# Altium footprint library BASIC Library.PCBLIB: 464 footprints (part 6 of 30)
Each footprint in its own frame and in the unit in brackets; x right, y up, seen from the top. Pads: shape width x height; smd on the part's side, far side on the other; paste and mask are expansions set on the pad; w line width, h text height; cw(c..) or ccw(c..) is an arc to the next point about the centre after c.
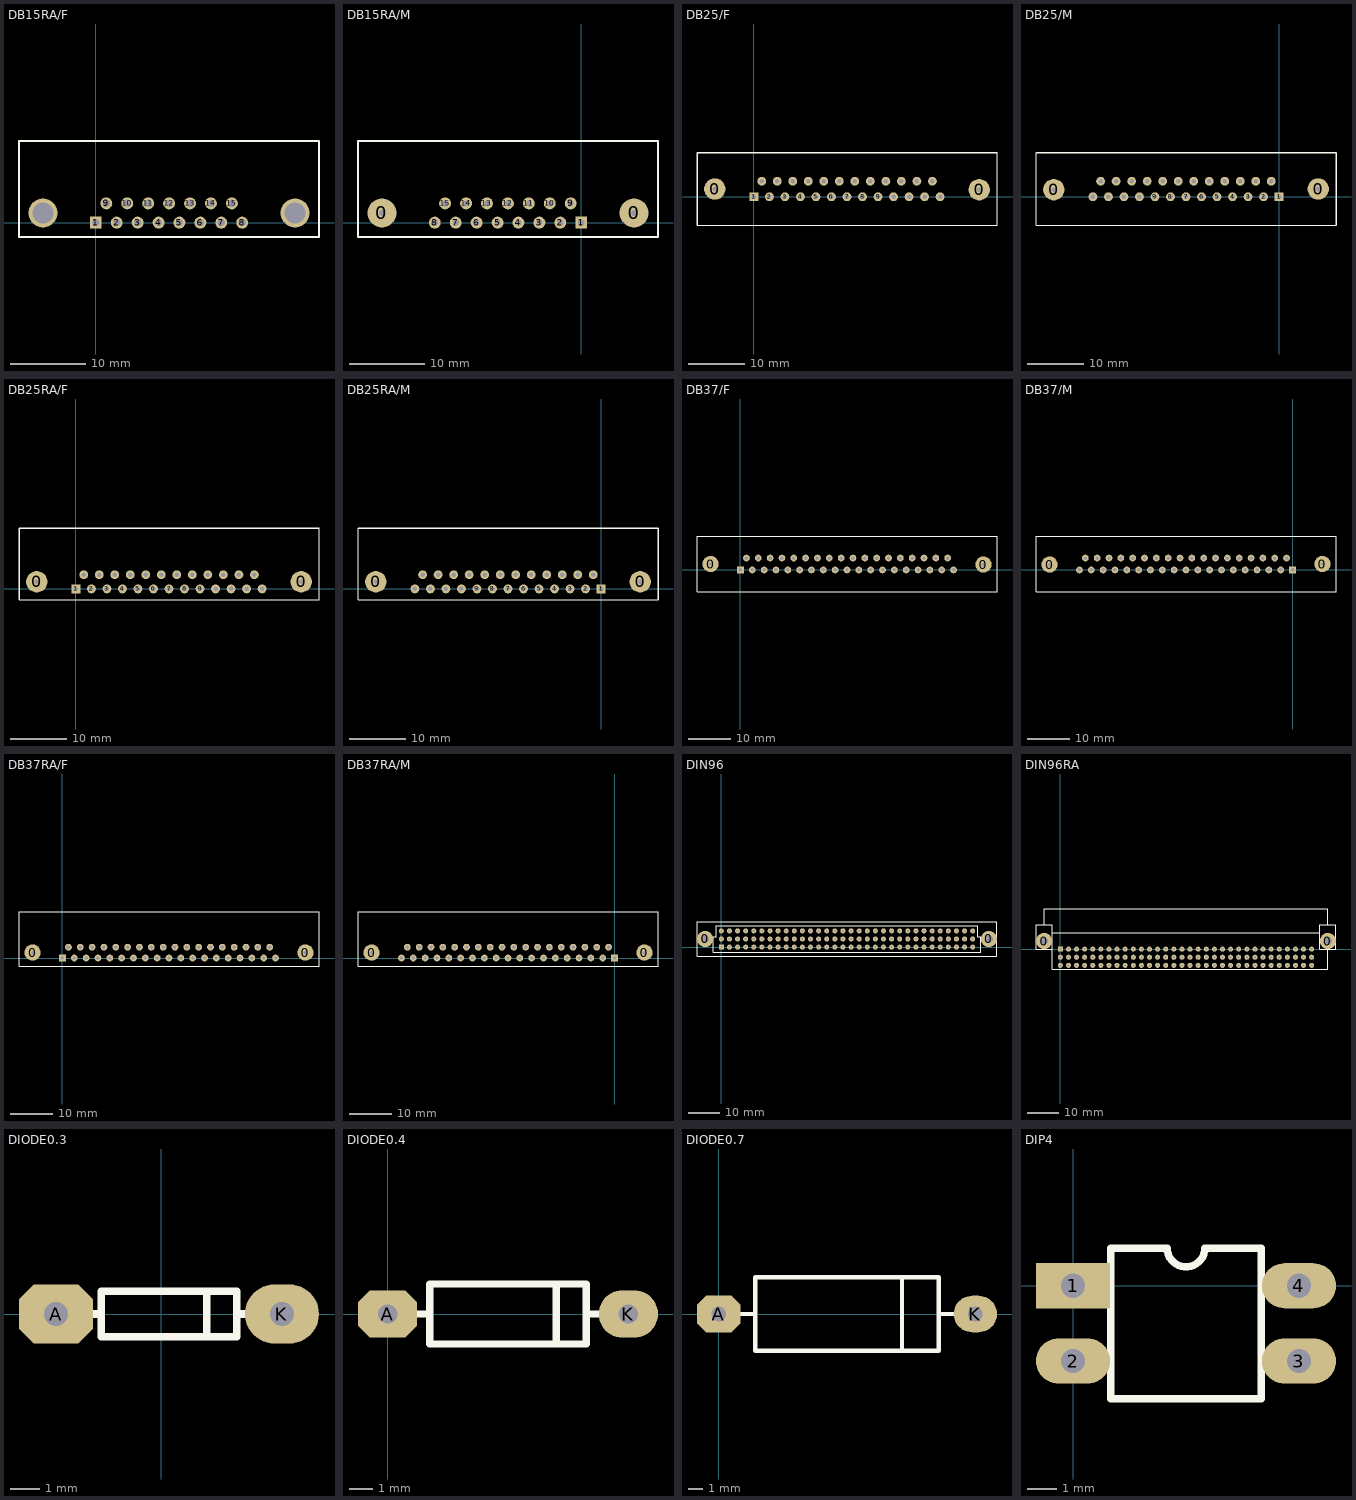
[diagram p5: the footprints below, top view; thin cyan lines are the x and y axes]

## DB15RA/F [mil]
pads (17):
  rect 62x62 hole 38: 1(0,0)
  round 62 hole 38: 2(109,0) 3(218,0) 4(327,0) 5(436,0) 6(545,0) 7(654,0) 8(763,0) 9(55,100) 10(164,100) 11(273,100) 12(382,100) 13(491,100) 14(600,100) 15(709,100)
  round 150 hole 110: ""(-275,50) ""(1038,50)
TopOverlay:
  lines w8: -400,-75 1163,-75 1163,425
  lines w10: -400,-75 -400,425 1163,425

## DB15RA/M [mil]
pads (17):
  round 150 hole 32: 0(-1038,50) 0(275,50)
  rect 62x62 hole 32: 1(0,0)
  round 62 hole 32: 2(-109,0) 3(-218,0) 4(-327,0) 5(-436,0) 6(-545,0) 7(-654,0) 8(-763,0) 9(-55,100) 10(-164,100) 11(-273,100) 12(-382,100) 13(-491,100) 14(-600,100) 15(-709,100)
TopOverlay:
  lines w8: -1163,425 -1163,-75 400,-75
  lines w10: -1163,425 400,425 400,-75

## DB25/F [mil]
pads (27):
  round 150 hole 32: 0(-275,55) 0(1583,50)
  rect 62x62 hole 32: 1(0,0)
  round 62 hole 32: 2(109,0) 3(218,0) 4(327,0) 5(436,0) 6(545,0) 7(654,0) 8(763,0) 9(872,0) 10(981,0) 11(1090,0) 12(1199,0) 13(1308,0) 14(55,110) 15(164,110) 16(273,110) 17(382,110) 18(491,110) 19(600,110) 20(709,110) 21(818,110) 22(927,110) 23(1036,110) 24(1145,110) 25(1254,110)
TopOverlay:
  lines w8: -400,-200 1708,-200 1708,310
  lines w10: -400,-200 -400,310 1708,310

## DB25/M [mil]
pads (27):
  round 150 hole 32: 0(-1583,50) 0(275,55)
  rect 62x62 hole 32: 1(0,0)
  round 62 hole 32: 2(-109,0) 3(-218,0) 4(-327,0) 5(-436,0) 6(-545,0) 7(-654,0) 8(-763,0) 9(-872,0) 10(-981,0) 11(-1090,0) 12(-1199,0) 13(-1308,0) 14(-55,110) 15(-164,110) 16(-273,110) 17(-382,110) 18(-491,110) 19(-600,110) 20(-709,110) 21(-818,110) 22(-927,110) 23(-1036,110) 24(-1145,110) 25(-1254,110)
TopOverlay:
  lines w8: -1708,310 -1708,-200 400,-200
  lines w10: -1708,310 400,310 400,-200

## DB25RA/F [mil]
pads (27):
  round 150 hole 32: 0(-275,50) 0(1583,50)
  rect 62x62 hole 32: 1(0,0)
  round 62 hole 32: 2(109,0) 3(218,0) 4(327,0) 5(436,0) 6(545,0) 7(654,0) 8(763,0) 9(872,0) 10(981,0) 11(1090,0) 12(1199,0) 13(1308,0) 14(55,100) 15(164,100) 16(273,100) 17(382,100) 18(491,100) 19(600,100) 20(709,100) 21(818,100) 22(927,100) 23(1036,100) 24(1145,100) 25(1254,100)
TopOverlay:
  lines w8: -400,-75 1708,-75 1708,425
  lines w10: -400,-75 -400,425 1708,425

## DB25RA/M [mil]
pads (27):
  round 150 hole 32: 0(-1583,50) 0(275,50)
  rect 62x62 hole 32: 1(0,0)
  round 62 hole 32: 2(-109,0) 3(-218,0) 4(-327,0) 5(-436,0) 6(-545,0) 7(-654,0) 8(-763,0) 9(-872,0) 10(-981,0) 11(-1090,0) 12(-1199,0) 13(-1308,0) 14(-55,100) 15(-164,100) 16(-273,100) 17(-382,100) 18(-491,100) 19(-600,100) 20(-709,100) 21(-818,100) 22(-927,100) 23(-1036,100) 24(-1145,100) 25(-1254,100)
TopOverlay:
  lines w8: -1708,425 -1708,-75 400,-75
  lines w10: -1708,425 400,425 400,-75

## DB37/F [mil]
pads (39):
  round 150 hole 32: 0(-275,55) 0(2237,50)
  rect 62x62 hole 32: 1(0,0)
  round 62 hole 32: 2(109,0) 3(218,0) 4(327,0) 5(436,0) 6(545,0) 7(654,0) 8(763,0) 9(872,0) 10(981,0) 11(1090,0) 12(1199,0) 13(1308,0) 14(1417,0) 15(1526,0) 16(1635,0) 17(1744,0) 18(1853,0) 19(1962,0) 20(55,110) 21(164,110) 22(273,110) 23(382,110) 24(491,110) 25(600,110) 26(709,110) 27(818,110) 28(927,110) 29(1036,110) 30(1145,110) 31(1254,110) 32(1363,110) 33(1472,110) 34(1581,110) 35(1690,110) 36(1799,110) 37(1908,110)
TopOverlay:
  lines w8: -400,-200 2362,-200 2362,310
  lines w10: -400,-200 -400,310 2362,310

## DB37/M [mil]
pads (39):
  round 150 hole 32: 0(-2237,50) 0(275,55)
  rect 62x62 hole 32: 1(0,0)
  round 62 hole 32: 2(-109,0) 3(-218,0) 4(-327,0) 5(-436,0) 6(-545,0) 7(-654,0) 8(-763,0) 9(-872,0) 10(-981,0) 11(-1090,0) 12(-1199,0) 13(-1308,0) 14(-1417,0) 15(-1526,0) 16(-1635,0) 17(-1744,0) 18(-1853,0) 19(-1962,0) 20(-55,110) 21(-164,110) 22(-273,110) 23(-382,110) 24(-491,110) 25(-600,110) 26(-709,110) 27(-818,110) 28(-927,110) 29(-1036,110) 30(-1145,110) 31(-1254,110) 32(-1363,110) 33(-1472,110) 34(-1581,110) 35(-1690,110) 36(-1799,110) 37(-1908,110)
TopOverlay:
  lines w8: -2362,310 -2362,-200 400,-200
  lines w10: -2362,310 400,310 400,-200

## DB37RA/F [mil]
pads (39):
  round 150 hole 32: 0(-275,50) 0(2237,50)
  rect 62x62 hole 32: 1(0,0)
  round 62 hole 32: 2(109,0) 3(218,0) 4(327,0) 5(436,0) 6(545,0) 7(654,0) 8(763,0) 9(872,0) 10(981,0) 11(1090,0) 12(1199,0) 13(1308,0) 14(1417,0) 15(1526,0) 16(1635,0) 17(1744,0) 18(1853,0) 19(1962,0) 20(55,100) 21(164,100) 22(273,100) 23(382,100) 24(491,100) 25(600,100) 26(709,100) 27(818,100) 28(927,100) 29(1036,100) 30(1145,100) 31(1254,100) 32(1363,100) 33(1472,100) 34(1581,100) 35(1690,100) 36(1799,100) 37(1908,100)
TopOverlay:
  lines w8: -400,-75 2362,-75 2362,425
  lines w10: -400,-75 -400,425 2362,425

## DB37RA/M [mil]
pads (39):
  round 150 hole 32: 0(-2237,50) 0(275,50)
  rect 62x62 hole 32: 1(0,0)
  round 62 hole 32: 2(-109,0) 3(-218,0) 4(-327,0) 5(-436,0) 6(-545,0) 7(-654,0) 8(-763,0) 9(-872,0) 10(-981,0) 11(-1090,0) 12(-1199,0) 13(-1308,0) 14(-1417,0) 15(-1526,0) 16(-1635,0) 17(-1744,0) 18(-1853,0) 19(-1962,0) 20(-55,100) 21(-164,100) 22(-273,100) 23(-382,100) 24(-491,100) 25(-600,100) 26(-709,100) 27(-818,100) 28(-927,100) 29(-1036,100) 30(-1145,100) 31(-1254,100) 32(-1363,100) 33(-1472,100) 34(-1581,100) 35(-1690,100) 36(-1799,100) 37(-1908,100)
TopOverlay:
  lines w8: -2362,425 -2362,-75 400,-75
  lines w10: -2362,425 400,425 400,-75

## DIN96 [mil]
pads (98):
  round 200 hole 100: 0(-200,100) 0(3300,100)
  rect 62x62 hole 25: 1A(0,0)
  round 62 hole 25: 1B(0,100) 1C(0,200) 2A(100,0) 2B(100,100) 2C(100,200) 3A(200,0) 3B(200,100) 3C(200,200) 4A(300,0) 4B(300,100) 4C(300,200) 5A(400,0) 5B(400,100) 5C(400,200) 6A(500,0) 6B(500,100) 6C(500,200) 7A(600,0) 7B(600,100) 7C(600,200) 8A(700,0) 8B(700,100) 8C(700,200) 9A(800,0) 9B(800,100) 9C(800,200) 10A(900,0) 10B(900,100) 10C(900,200) 11A(1000,0) 11B(1000,100) 11C(1000,200) 12A(1100,0) 12B(1100,100) 12C(1100,200) 13A(1200,0) 13B(1200,100) 13C(1200,200) 14A(1300,0) 14B(1300,100) 14C(1300,200) 15A(1400,0) 15B(1400,100) 15C(1400,200) 16A(1500,0) 16B(1500,100) 16C(1500,200) 17A(1600,0) 17B(1600,100) 17C(1600,200) 18A(1700,0) 18B(1700,100) 18C(1700,200) 19A(1800,0) 19B(1800,100) 19C(1800,200) 20A(1900,0) 20B(1900,100) 20C(1900,200) 21A(2000,0) 21B(2000,100) 21C(2000,200) 22A(2100,0) 22B(2100,100) 22C(2100,200) 23A(2200,0) 23B(2200,100) 23C(2200,200) 24A(2300,0) 24B(2300,100) 24C(2300,200) 25A(2400,0) 25B(2400,100) 25C(2400,200) 26A(2500,0) 26B(2500,100) 26C(2500,200) 27A(2600,0) 27B(2600,100) 27C(2600,200) 28A(2700,0) 28B(2700,100) 28C(2700,200) 29A(2800,0) 29B(2800,100) 29C(2800,200) 30A(2900,0) 30B(2900,100) 30C(2900,200) 31A(3000,0) 31B(3000,100) 31C(3000,200) 32A(3100,0) 32B(3100,100) 32C(3100,200)
TopOverlay:
  lines w10: -300,-110 -300,310 3400,310 3400,-110 -300,-110 ; -100,-65 -100,130 -65,130 -65,265 3165,265 3165,130 3200,130 3200,-65 -100,-65

## DIN96RA [mil]
pads (98):
  round 200 hole 100: 0(-200,100) 0(3300,100)
  rect 62x62 hole 25: 1A(0,0)
  round 62 hole 25: 1B(0,-100) 1C(0,-200) 2A(100,0) 2B(100,-100) 2C(100,-200) 3A(200,0) 3B(200,-100) 3C(200,-200) 4A(300,0) 4B(300,-100) 4C(300,-200) 5A(400,0) 5B(400,-100) 5C(400,-200) 6A(500,0) 6B(500,-100) 6C(500,-200) 7A(600,0) 7B(600,-100) 7C(600,-200) 8A(700,0) 8B(700,-100) 8C(700,-200) 9A(800,0) 9B(800,-100) 9C(800,-200) 10A(900,0) 10B(900,-100) 10C(900,-200) 11A(1000,0) 11B(1000,-100) 11C(1000,-200) 12A(1100,0) 12B(1100,-100) 12C(1100,-200) 13A(1200,0) 13B(1200,-100) 13C(1200,-200) 14A(1300,0) 14B(1300,-100) 14C(1300,-200) 15A(1400,0) 15B(1400,-100) 15C(1400,-200) 16A(1500,0) 16B(1500,-100) 16C(1500,-200) 17A(1600,0) 17B(1600,-100) 17C(1600,-200) 18A(1700,0) 18B(1700,-100) 18C(1700,-200) 19A(1800,0) 19B(1800,-100) 19C(1800,-200) 20A(1900,0) 20B(1900,-100) 20C(1900,-200) 21A(2000,0) 21B(2000,-100) 21C(2000,-200) 22A(2100,0) 22B(2100,-100) 22C(2100,-200) 23A(2200,0) 23B(2200,-100) 23C(2200,-200) 24A(2300,0) 24B(2300,-100) 24C(2300,-200) 25A(2400,0) 25B(2400,-100) 25C(2400,-200) 26A(2500,0) 26B(2500,-100) 26C(2500,-200) 27A(2600,0) 27B(2600,-100) 27C(2600,-200) 28A(2700,0) 28B(2700,-100) 28C(2700,-200) 29A(2800,0) 29B(2800,-100) 29C(2800,-200) 30A(2900,0) 30B(2900,-100) 30C(2900,-200) 31A(3000,0) 31B(3000,-100) 31C(3000,-200) 32A(3100,0) 32B(3100,-100) 32C(3100,-200)
TopOverlay:
  lines w10: -100,200 3200,200 ; 3300,0 3300,-250 -100,-250 -100,0 ; -200,300 -200,500 3300,500 3300,300 ; -200,300 -300,300 -300,0 -100,0 ; -200,300 -100,300 -100,0 ; 3300,300 3200,300 3200,0 3400,0 3400,300 3300,300

## DIODE0.3 [mil]
pads (2):
  oct 98.42x78.74 hole 32: A(-140,0)
  oval 98.42x78.74 hole 32: K(160,0)
TopOverlay:
  circle w10: c-110,0 r0
  circle w10: c60,-30 r0
  circle w10: c100,30 r0
  circle w10: c100,-30 r0
  circle w10: c130,0 r0
  lines w10: -110,0 -80,0 ; 60,-30 60,30 ; 100,0 130,0 ; -80,-30 -80,30 100,30 100,-30 -80,-30

## DIODE0.4 [mm]
pads (2):
  oct 2.5x2 hole 0.813: A(0,0)
  oval 2.5x2 hole 0.813: K(10.16,0)
TopOverlay:
  lines w0.305: 1.016,0 1.778,0 ; 7.112,-1.27 7.112,1.27 ; 8.382,0 9.144,0 ; 1.778,-1.27 1.778,1.27 8.382,1.27 8.382,-1.27 1.778,-1.27

## DIODE0.7 [mil]
pads (2):
  oct 118.11x100 hole 40: A(0,0)
  oval 118.11x100 hole 40: K(700,0)
TopOverlay:
  lines w12: 60,0 100,0 ; 500,-100 500,100 ; 600,0 640,0 ; 100,-100 100,100 600,100 600,-100 100,-100

## DIP4 [mil]
pads (4):
  rect 98.42x60 hole 32: 1(0,0)
  oval 98.42x60 hole 32: 2(0,-100) 3(300,-100) 4(300,0)
TopOverlay:
  lines w10: 50,-150 50,50 125,50 ccw(c150,50) 175,50 250,50 250,-150 50,-150